# EAGLE library part BM-S01(V2.0) (library DECADE-libraries20151104)
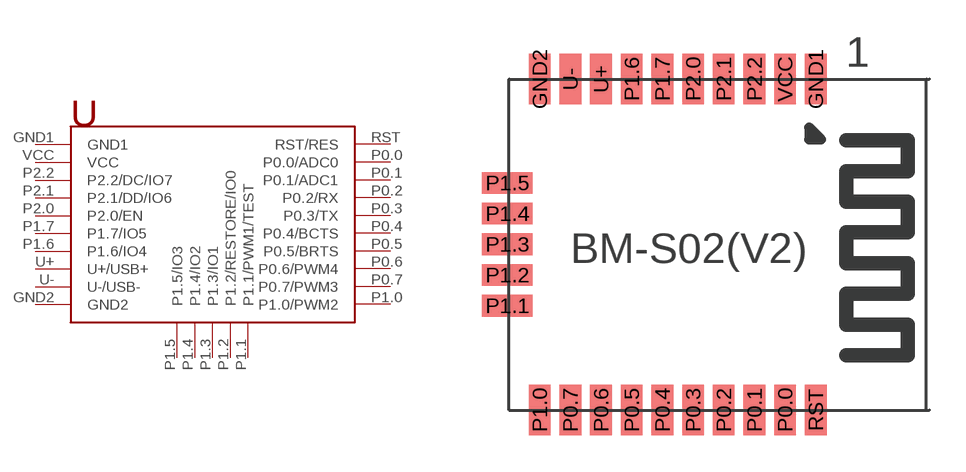
[diagram p107: symbol with the pads of BM-S01(V2.0); footprint BM-S01(V2.0)]

Designator prefix -

## BM-S01(V2.0)  [BM-S01(V2.0)]
GND1  GND1
GND2  GND2
P0.0  P0.0/ADC0
P0.1  P0.1/ADC1
P0.2  P0.2/RX
P0.3  P0.3/TX
P0.4  P0.4/BCTS
P0.5  P0.5/BRTS
P0.6  P0.6/PWM4
P0.7  P0.7/PWM3
P1.0  P1.0/PWM2
P1.1  P1.1/PWM1/TEST
P1.2  P1.2/RESTORE/IO0
P1.3  P1.3/IO1
P1.4  P1.4/IO2
P1.5  P1.5/IO3
P1.6  P1.6/IO4
P1.7  P1.7/IO5
P2.0  P2.0/EN
P2.1  P2.1/DD/IO6
P2.2  P2.2/DC/IO7
RST  RST/RES
U+  U+/USB+
U-  U-/USB-
VCC  VCC

## Footprint BM-S01(V2.0) (pad centres in mm)
smd 0.9 x 2.1: GND1 10.27,7.5; GND2 -1.16,7.5; P0.0 9,-6.2; P0.1 7.73,-6.2; P0.2 6.46,-6.2; P0.3 5.19,-6.2; P0.4 3.92,-6.2; P0.5 2.65,-6.2; P0.6 1.38,-6.2; P0.7 0.11,-6.2; P1.0 -1.16,-6.2; P1.6 2.65,7.5; P1.7 3.92,7.5; P2.0 5.19,7.5; P2.1 6.46,7.5; P2.2 7.73,7.5; RST 10.27,-6.2; U+ 1.38,7.5; U- 0.11,7.5; VCC 9,7.5
smd 2.1 x 0.9: P1.1 -2.5,-1.88; P1.2 -2.5,-0.61; P1.3 -2.5,0.66; P1.4 -2.5,1.93; P1.5 -2.5,3.2